# Altium schematic symbol library MI_Personal.SchLib: 995 symbols (part 6 of 12)
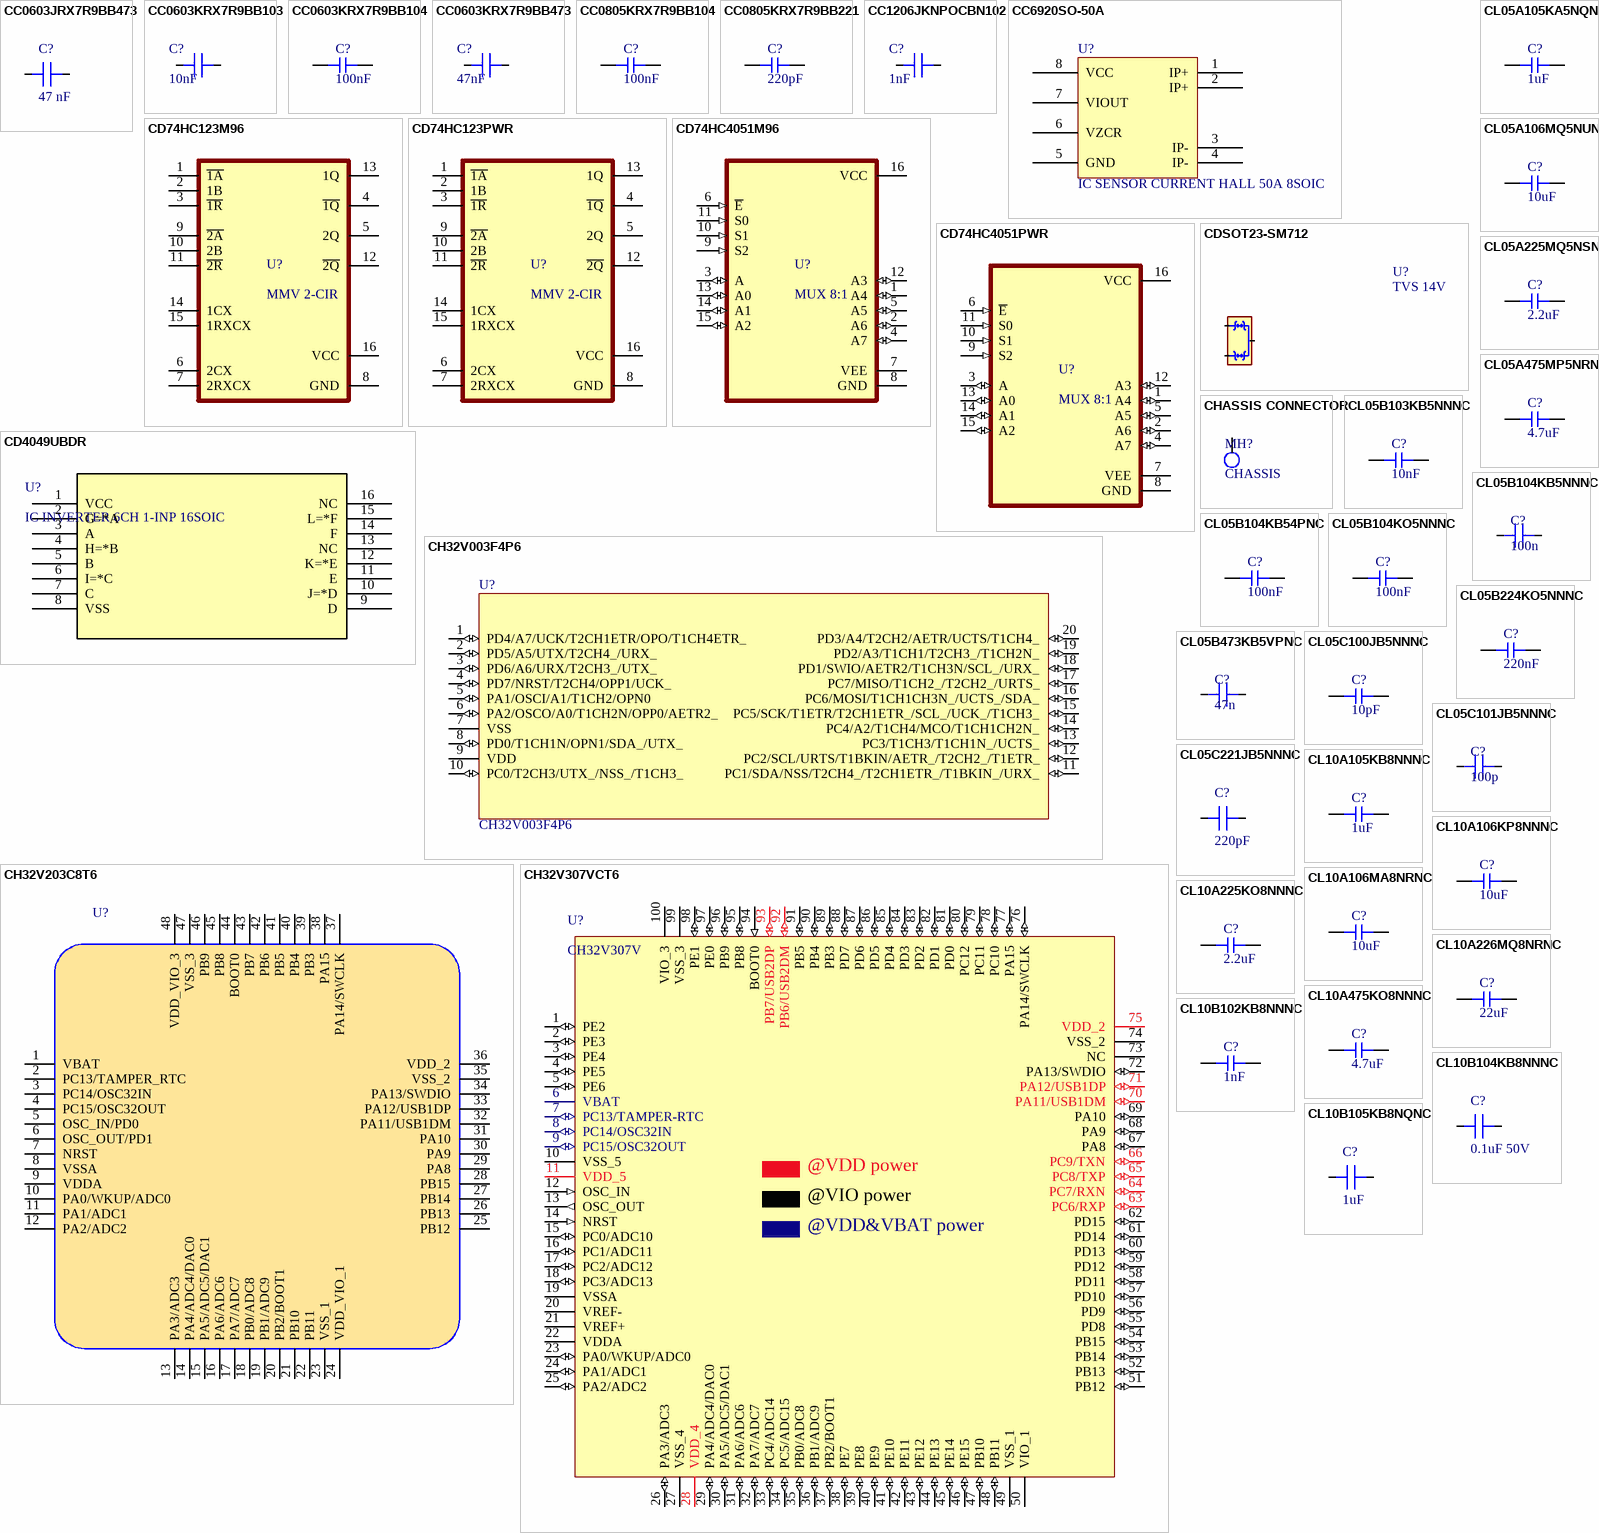
[diagram p32: symbols CC0603JRX7R9BB473 to CL10B105KB8NQNC]

## CL05A105KA5NQNC
designator C?  Capacitance: 1uF  (hidden comment: *)
Capacitor, Ceramic (MLCC), 1uF, ±10%, 25V, X5R, ±10%, SMD 0402; Manufacturer: Samsung Electro-Mechanics; Manufacturer Part Number: CL05A105KA5NQNC; Temperature Rating: -55°C ~ 85°C; Capacitance @ 1V DC Bias: 1.014uF; Capacitance @ 1.2V DC Bias: 0.983uF; Capacitance @ 1.35V DC Bias: 0.958uF; Capacitance @ 1.5V DC Bias: 0.932uF; Capacitance @ 1.8V DC Bias: 0.879uF; Capacitance @ 2.5V DC Bias: 0.755uF; Capacitance @ 3.3V DC Bias: 0.618uF; Capacitance @ 3.7V DC Bias: 0.562uF; Capacitance @ 4.2V DC Bias: 0.501uF; Capacitance @ 5V DC Bias: 0.420uF; Capacitance @ 9V DC Bias: 0.204uF; Capacitance @ 12V DC Bias: 0.147uF; Capacitance @ 15V DC Bias: 0.107uF; Capacitance @ 24V DC Bias: 0.061uF; Impedance (0V Bias) @ 100Hz: 1.95E+03Ω; Impedance (0V Bias) @ 500Hz: 402Ω; Impedance (0V Bias) @ 1kHz: 204Ω; Impedance (0V Bias) @ 5kHz: 42Ω; Impedance (0V Bias) @ 10kHz: 21.3Ω; Impedance (0V Bias) @ 50kHz: 4.4Ω; Impedance (0V Bias) @ 100kHz: 2.23Ω; Impedance (0V Bias) @ 500kHz: 0.462Ω; Impedance (0V Bias) @ 1MHz: 0.234Ω; Impedance (0V Bias) @ 5MHz: 0.0392Ω; Impedance (0V Bias) @ 10MHz: 0.0118Ω; Impedance (0V Bias) @ 50MHz: 0.0671Ω; Impedance (0V Bias) @ 100MHz: 0.118Ω; Impedance (0V Bias) @ 500MHz: 0.452Ω; Impedance (0V Bias) @ 1GHz: 0.812Ω; Impedance (0V Bias) @ 2GHz: 1.8Ω; Impedance (0V Bias) @ 5GHz: 3.57Ω; Impedance (25V Bias) @ 100Hz: 2.62E+04Ω; Impedance (25V Bias) @ 500Hz: 5.28E+03Ω; Impedance (25V Bias) @ 1kHz: 2.65E+03Ω; Impedance (25V Bias) @ 5kHz: 533Ω; Impedance (25V Bias) @ 10kHz: 267Ω; Impedance (25V Bias) @ 50kHz: 53.8Ω; Impedance (25V Bias) @ 100kHz: 27Ω; Impedance (25V Bias) @ 500kHz: 5.42Ω; Impedance (25V Bias) @ 1MHz: 2.7Ω; Impedance (25V Bias) @ 5MHz: 0.621Ω; Impedance (25V Bias) @ 10MHz: 0.298Ω; Impedance (25V Bias) @ 50MHz: 0.0523Ω; Impedance (25V Bias) @ 100MHz: 0.113Ω; Impedance (25V Bias) @ 500MHz: 0.451Ω; Impedance (25V Bias) @ 1GHz: 0.82Ω; Impedance (25V Bias) @ 2GHz: 1.85Ω; Impedance (25V Bias) @ 5GHz: 3.51Ω; Package Size: 0402; JLCPCB Basic Part: Yes; JLCPCB Part Number: C52923; Supplier 1: LCSC; Category: Capacitors - MLCC; Supplier Part Number 1: C52923; Tolerance: ±10%; Voltage Rating: 25V; Temperature Coefficient: X5R; RoHS: Yes; ComponentLink1Description: Datasheet; ComponentLink1URL: https://wmsc.lcsc.com/wmsc/upload/file/pdf/v2/lcsc/2304140030_Samsung-Electro-Mechanics-CL05A105KA5NQNC_C52923.pdf; ComponentLink2Description: JLCPCB Part URL; ComponentLink2URL: https://jlcpcb.com/partdetail/C52923; ComponentLink3Description: LCSC Part URL; ComponentLink3URL: https://lcsc.com/product-detail/Multilayer-Ceramic-Capacitors-MLCC---SMD-SMT_Samsung-Electro-Mechanics-Samsung-Electro-Mechanics-CL05A105KA5NQNC_C52923.html; ComponentLink4Description: Samsung Component Library; ComponentLink4URL: https://weblib.samsungsem.com/mlcc/mlcc-ec.do?partNumber=CL05A105KA5NQN
footprint CAP-0402 (0402 (1005M) Capacitor)
pins: 1, 2

## CL05A106MQ5NUNC
designator C?  Capacitance: 10uF  (hidden comment: *)
Capacitor, Ceramic (MLCC), 10uF, ±20%, 6.3V, X5R, ±20%, SMD 0402; Manufacturer: Samsung Electro-Mechanics; Manufacturer Part Number: CL05A106MQ5NUNC; Temperature Rating: -55°C ~ 85°C; Capacitance @ 1V DC Bias: 7.816uF; Capacitance @ 1.2V DC Bias: 7.392uF; Capacitance @ 1.35V DC Bias: 7.025uF; Capacitance @ 1.5V DC Bias: 6.639uF; Capacitance @ 1.8V DC Bias: 5.875uF; Capacitance @ 2.5V DC Bias: 4.552uF; Capacitance @ 3.3V DC Bias: 3.499uF; Capacitance @ 3.7V DC Bias: 3.122uF; Capacitance @ 4.2V DC Bias: 2.720uF; Capacitance @ 5V DC Bias: 2.236uF; Impedance (0V Bias) @ 100Hz: 243Ω; Impedance (0V Bias) @ 500Hz: 50Ω; Impedance (0V Bias) @ 1kHz: 25.3Ω; Impedance (0V Bias) @ 5kHz: 5.23Ω; Impedance (0V Bias) @ 10kHz: 2.64Ω; Impedance (0V Bias) @ 50kHz: 0.544Ω; Impedance (0V Bias) @ 100kHz: 0.275Ω; Impedance (0V Bias) @ 500kHz: 0.0554Ω; Impedance (0V Bias) @ 1MHz: 0.026Ω; Impedance (0V Bias) @ 5MHz: 0.012Ω; Impedance (0V Bias) @ 10MHz: 0.0181Ω; Impedance (0V Bias) @ 50MHz: 0.0531Ω; Impedance (0V Bias) @ 100MHz: 0.09Ω; Impedance (0V Bias) @ 500MHz: 0.323Ω; Impedance (0V Bias) @ 1GHz: 0.567Ω; Impedance (0V Bias) @ 2GHz: 1.33Ω; Impedance (0V Bias) @ 5GHz: 2.66Ω; Package Size: 0402; JLCPCB Basic Part: Yes; JLCPCB Part Number: C15525; Supplier 1: LCSC; Category: Capacitors - MLCC; Supplier Part Number 1: C15525; Tolerance: ±20%; Voltage Rating: 6.3V; Temperature Coefficient: X5R; RoHS: Yes; ComponentLink1Description: Datasheet; ComponentLink1URL: https://wmsc.lcsc.com/wmsc/upload/file/pdf/v2/lcsc/2208231630_Samsung-Electro-Mechanics-CL05A106MQ5NUNC_C15525.pdf; ComponentLink2Description: JLCPCB Part URL; ComponentLink2URL: https://jlcpcb.com/partdetail/C15525; ComponentLink3Description: LCSC Part URL; ComponentLink3URL: https://lcsc.com/product-detail/Multilayer-Ceramic-Capacitors-MLCC---SMD-SMT_Samsung-Electro-Mechanics-Samsung-Electro-Mechanics-CL05A106MQ5NUNC_C15525.html; ComponentLink4Description: Samsung Component Library; ComponentLink4URL: https://weblib.samsungsem.com/mlcc/mlcc-ec.do?partNumber=CL05A106MQ5NUN
footprint CAP-0402 (0402 (1005M) Capacitor)
pins: 1, 2

## CL05A225MQ5NSNC
designator C?  Capacitance: 2.2uF  (hidden comment: *)
Capacitor, Ceramic (MLCC), 2.2uF, ±20%, 6.3V, X5R, ±20%, SMD 0402; Manufacturer: Samsung Electro-Mechanics; Manufacturer Part Number: CL05A225MQ5NSNC; Temperature Rating: -55°C ~ 85°C; Capacitance @ 1V DC Bias: 2.019uF; Capacitance @ 1.2V DC Bias: 1.921uF; Capacitance @ 1.35V DC Bias: 1.843uF; Capacitance @ 1.5V DC Bias: 1.764uF; Capacitance @ 1.8V DC Bias: 1.611uF; Capacitance @ 2.5V DC Bias: 1.302uF; Capacitance @ 3.3V DC Bias: 1.004uF; Capacitance @ 3.7V DC Bias: 0.893uF; Capacitance @ 4.2V DC Bias: 0.780uF; Capacitance @ 5V DC Bias: 0.638uF; Impedance (0V Bias) @ 100Hz: 935Ω; Impedance (0V Bias) @ 500Hz: 192Ω; Impedance (0V Bias) @ 1kHz: 97.4Ω; Impedance (0V Bias) @ 5kHz: 20Ω; Impedance (0V Bias) @ 10kHz: 10.1Ω; Impedance (0V Bias) @ 50kHz: 2.08Ω; Impedance (0V Bias) @ 100kHz: 1.05Ω; Impedance (0V Bias) @ 500kHz: 0.214Ω; Impedance (0V Bias) @ 1MHz: 0.107Ω; Impedance (0V Bias) @ 5MHz: 0.0123Ω; Impedance (0V Bias) @ 10MHz: 0.0171Ω; Impedance (0V Bias) @ 50MHz: 0.0697Ω; Impedance (0V Bias) @ 100MHz: 0.123Ω; Impedance (0V Bias) @ 500MHz: 0.484Ω; Impedance (0V Bias) @ 1GHz: 0.858Ω; Impedance (0V Bias) @ 2GHz: 1.87Ω; Impedance (0V Bias) @ 5GHz: 3.69Ω; Package Size: 0402; JLCPCB Basic Part: Yes; JLCPCB Part Number: C12530; Supplier 1: LCSC; Category: Capacitors - MLCC; Supplier Part Number 1: C12530; Tolerance: ±20%; Voltage Rating: 6.3V; Temperature Coefficient: X5R; RoHS: Yes; ComponentLink1Description: Datasheet; ComponentLink1URL: https://wmsc.lcsc.com/wmsc/upload/file/pdf/v2/lcsc/2304140030_Samsung-Electro-Mechanics-CL05A225MQ5NSNC_C12530.pdf; ComponentLink2Description: JLCPCB Part URL; ComponentLink2URL: https://jlcpcb.com/partdetail/C12530; ComponentLink3Description: LCSC Part URL; ComponentLink3URL: https://lcsc.com/product-detail/Multilayer-Ceramic-Capacitors-MLCC---SMD-SMT_Samsung-Electro-Mechanics-Samsung-Electro-Mechanics-CL05A225MQ5NSNC_C12530.html; ComponentLink4Description: Samsung Component Library; ComponentLink4URL: https://weblib.samsungsem.com/mlcc/mlcc-ec.do?partNumber=CL05A225MQ5NSN
footprint CAP-0402 (0402 (1005M) Capacitor)
pins: 1, 2

## CL05A475MP5NRNC
designator C?  Capacitance: 4.7uF  (hidden comment: *)
Capacitor, Ceramic (MLCC), 4.7uF, ±20%, 10V, X5R, ±20%, SMD 0402; Manufacturer: Samsung Electro-Mechanics; Manufacturer Part Number: CL05A475MP5NRNC; Temperature Rating: -55°C ~ 85°C; Capacitance @ 1V DC Bias: 4.048uF; Capacitance @ 1.2V DC Bias: 3.816uF; Capacitance @ 1.35V DC Bias: 3.633uF; Capacitance @ 1.5V DC Bias: 3.450uF; Capacitance @ 1.8V DC Bias: 3.100uF; Capacitance @ 2.5V DC Bias: 2.453uF; Capacitance @ 3.3V DC Bias: 1.872uF; Capacitance @ 3.7V DC Bias: 1.663uF; Capacitance @ 4.2V DC Bias: 1.455uF; Capacitance @ 5V DC Bias: 1.191uF; Capacitance @ 9V DC Bias: 0.548uF; Impedance (0V Bias) @ 100Hz: 442Ω; Impedance (0V Bias) @ 500Hz: 90.2Ω; Impedance (0V Bias) @ 1kHz: 45.6Ω; Impedance (0V Bias) @ 5kHz: 9.34Ω; Impedance (0V Bias) @ 10kHz: 4.72Ω; Impedance (0V Bias) @ 50kHz: 0.964Ω; Impedance (0V Bias) @ 100kHz: 0.486Ω; Impedance (0V Bias) @ 500kHz: 0.0987Ω; Impedance (0V Bias) @ 1MHz: 0.0479Ω; Impedance (0V Bias) @ 5MHz: 0.00709Ω; Impedance (0V Bias) @ 10MHz: 0.0183Ω; Impedance (0V Bias) @ 50MHz: 0.06Ω; Impedance (0V Bias) @ 100MHz: 0.102Ω; Impedance (0V Bias) @ 500MHz: 0.377Ω; Impedance (0V Bias) @ 1GHz: 0.66Ω; Impedance (0V Bias) @ 2GHz: 1.52Ω; Impedance (0V Bias) @ 5GHz: 3.05Ω; Impedance (10V Bias) @ 100Hz: 3.34E+03Ω; Impedance (10V Bias) @ 500Hz: 674Ω; Impedance (10V Bias) @ 1kHz: 338Ω; Impedance (10V Bias) @ 5kHz: 68.2Ω; Impedance (10V Bias) @ 10kHz: 34.2Ω; Impedance (10V Bias) @ 50kHz: 6.88Ω; Impedance (10V Bias) @ 100kHz: 3.45Ω; Impedance (10V Bias) @ 500kHz: 0.693Ω; Impedance (10V Bias) @ 1MHz: 0.344Ω; Impedance (10V Bias) @ 5MHz: 0.0603Ω; Impedance (10V Bias) @ 10MHz: 0.0164Ω; Impedance (10V Bias) @ 50MHz: 0.064Ω; Impedance (10V Bias) @ 100MHz: 0.105Ω; Impedance (10V Bias) @ 500MHz: 0.385Ω; Impedance (10V Bias) @ 1GHz: 0.673Ω; Impedance (10V Bias) @ 5GHz: 3.06Ω; Package Size: 0402; JLCPCB Basic Part: Yes; JLCPCB Part Number: C23733; Supplier 1: LCSC; Category: Capacitors - MLCC; Supplier Part Number 1: C23733; Tolerance: ±20%; Voltage Rating: 10V; Temperature Coefficient: X5R; RoHS: Yes; ComponentLink1Description: Datasheet; ComponentLink1URL: https://wmsc.lcsc.com/wmsc/upload/file/pdf/v2/lcsc/2304140030_Samsung-Electro-Mechanics-CL05A475MP5NRNC_C23733.pdf; ComponentLink2Description: JLCPCB Part URL; ComponentLink2URL: https://jlcpcb.com/partdetail/C23733; ComponentLink3Description: LCSC Part URL; ComponentLink3URL: https://lcsc.com/product-detail/Multilayer-Ceramic-Capacitors-MLCC---SMD-SMT_Samsung-Electro-Mechanics-Samsung-Electro-Mechanics-CL05A475MP5NRNC_C23733.html; ComponentLink4Description: Samsung Component Library; ComponentLink4URL: https://weblib.samsungsem.com/mlcc/mlcc-ec.do?partNumber=CL05A475MP5NRN; Impedance (10V Bias) @ 2GHz: 1.52Ω
footprint CAP-0402 (0402 (1005M) Capacitor)
pins: 1, 2

## CL05B103KB5NNNC
designator C?  Capacitance: 10nF  (hidden comment: *)
Capacitor, Ceramic (MLCC), 10nF, ±10%, 50V, X7R, ±10%, SMD 0402; Manufacturer: Samsung Electro-Mechanics; Manufacturer Part Number: CL05B103KB5NNNC; Temperature Rating: -55°C ~ 125°C; Capacitance @ 1V DC Bias: 10.426nF; Capacitance @ 1.2V DC Bias: 10.434nF; Capacitance @ 1.35V DC Bias: 10.444nF; Capacitance @ 1.5V DC Bias: 10.455nF; Capacitance @ 1.8V DC Bias: 10.480nF; Capacitance @ 2.5V DC Bias: 10.514nF; Capacitance @ 3.3V DC Bias: 10.519nF; Capacitance @ 3.7V DC Bias: 10.504nF; Capacitance @ 4.2V DC Bias: 10.473nF; Capacitance @ 5V DC Bias: 10.402nF; Capacitance @ 9V DC Bias: 10.052nF; Capacitance @ 12V DC Bias: 9.639nF; Capacitance @ 15V DC Bias: 9.187nF; Capacitance @ 24V DC Bias: 7.606nF; Capacitance @ 36V DC Bias: 5.499nF; Capacitance @ 48V DC Bias: 3.591nF; Impedance (0V Bias) @ 100Hz: 1.57E+05Ω; Impedance (0V Bias) @ 500Hz: 3.19E+04Ω; Impedance (0V Bias) @ 1kHz: 1.61E+04Ω; Impedance (0V Bias) @ 5kHz: 3.27E+03Ω; Impedance (0V Bias) @ 10kHz: 1.65E+03Ω; Impedance (0V Bias) @ 50kHz: 335Ω; Impedance (0V Bias) @ 100kHz: 169Ω; Impedance (0V Bias) @ 500kHz: 34.3Ω; Impedance (0V Bias) @ 1MHz: 17.3Ω; Impedance (0V Bias) @ 5MHz: 3.52Ω; Impedance (0V Bias) @ 10MHz: 1.77Ω; Impedance (0V Bias) @ 50MHz: 0.285Ω; Impedance (0V Bias) @ 100MHz: 0.0835Ω; Impedance (0V Bias) @ 500MHz: 0.751Ω; Impedance (0V Bias) @ 1GHz: 1.42Ω; Impedance (0V Bias) @ 2GHz: 3.22Ω; Impedance (0V Bias) @ 5GHz: 6.48Ω; Package Size: 0402; JLCPCB Basic Part: Yes; JLCPCB Part Number: C15195; Supplier 1: LCSC; Category: Capacitors - MLCC; Supplier Part Number 1: C15195; Tolerance: ±10%; Voltage Rating: 50V; Temperature Coefficient: X7R; RoHS: Yes; ComponentLink1Description: Datasheet; ComponentLink1URL: https://wmsc.lcsc.com/wmsc/upload/file/pdf/v2/lcsc/2304140030_Samsung-Electro-Mechanics-CL05B103KB5NNNC_C15195.pdf; ComponentLink2Description: JLCPCB Part URL; ComponentLink2URL: https://jlcpcb.com/partdetail/C15195; ComponentLink3Description: LCSC Part URL; ComponentLink3URL: https://lcsc.com/product-detail/Multilayer-Ceramic-Capacitors-MLCC---SMD-SMT_Samsung-Electro-Mechanics-Samsung-Electro-Mechanics-CL05B103KB5NNNC_C15195.html; ComponentLink4Description: Samsung Component Library; ComponentLink4URL: https://weblib.samsungsem.com/mlcc/mlcc-ec.do?partNumber=CL05B103KB5NNN
footprint CAP-0402 (0402 (1005M) Capacitor)
pins: 1, 2

## CL05B104KB5NNNC
designator C?, comment 100n
CAP CER 0.1UF 50V X7R 0402; Supplier 1: DigiKey; Supplier Part Number 1: 1276-CL05B104KB5NNNCCT-ND; Supplier 2: LCSC; Supplier Part Number 2: C960916
footprint CAP 0402_1005 RF (Chip Capacitor, 2-Leads, Body 1.02x0.51mm, IPC High Density)
pins: 1, 2

## CL05B104KB54PNC
designator C?  Capacitance: 100nF  (hidden comment: *)
Capacitor, Ceramic (MLCC), 100nF, ±10%, 50V, X7R, ±10%, SMD 0402; Manufacturer: Samsung Electro-Mechanics; Manufacturer Part Number: CL05B104KB54PNC; Temperature Rating: -55°C ~ 125°C; Capacitance @ 1V DC Bias: 105.687nF; Capacitance @ 1.2V DC Bias: 105.639nF; Capacitance @ 1.35V DC Bias: 105.594nF; Capacitance @ 1.5V DC Bias: 105.528nF; Capacitance @ 1.8V DC Bias: 105.317nF; Capacitance @ 2.5V DC Bias: 104.216nF; Capacitance @ 3.3V DC Bias: 102.385nF; Capacitance @ 3.7V DC Bias: 101.236nF; Capacitance @ 4.2V DC Bias: 99.650nF; Capacitance @ 5V DC Bias: 96.918nF; Capacitance @ 9V DC Bias: 81.073nF; Capacitance @ 12V DC Bias: 69.786nF; Capacitance @ 15V DC Bias: 59.475nF; Capacitance @ 24V DC Bias: 38.112nF; Capacitance @ 36V DC Bias: 23.027nF; Capacitance @ 48V DC Bias: 16.035nF; Impedance (0V Bias) @ 100Hz: 1.66E+04Ω; Impedance (0V Bias) @ 500Hz: 3.38E+03Ω; Impedance (0V Bias) @ 1kHz: 1.7E+03Ω; Impedance (0V Bias) @ 5kHz: 346Ω; Impedance (0V Bias) @ 10kHz: 175Ω; Impedance (0V Bias) @ 50kHz: 35.5Ω; Impedance (0V Bias) @ 100kHz: 17.9Ω; Impedance (0V Bias) @ 500kHz: 3.64Ω; Impedance (0V Bias) @ 1MHz: 1.84Ω; Impedance (0V Bias) @ 5MHz: 0.366Ω; Impedance (0V Bias) @ 10MHz: 0.172Ω; Impedance (0V Bias) @ 50MHz: 0.0626Ω; Impedance (0V Bias) @ 100MHz: 0.128Ω; Impedance (0V Bias) @ 500MHz: 0.487Ω; Impedance (0V Bias) @ 1GHz: 0.87Ω; Impedance (0V Bias) @ 2GHz: 2Ω; Impedance (0V Bias) @ 5GHz: 3.96Ω; Package Size: 0402; JLCPCB Basic Part: Yes; JLCPCB Part Number: C307331; Supplier 1: LCSC; Category: Capacitors - MLCC; Supplier Part Number 1: C307331; Tolerance: ±10%; Voltage Rating: 50V; Temperature Coefficient: X7R; RoHS: Yes; ComponentLink1Description: Datasheet; ComponentLink1URL: https://wmsc.lcsc.com/wmsc/upload/file/pdf/v2/lcsc/2304140030_Samsung-Electro-Mechanics-CL05B104KB54PNC_C307331.pdf; ComponentLink2Description: JLCPCB Part URL; ComponentLink2URL: https://jlcpcb.com/partdetail/C307331; ComponentLink3Description: LCSC Part URL; ComponentLink3URL: https://lcsc.com/product-detail/Multilayer-Ceramic-Capacitors-MLCC---SMD-SMT_Samsung-Electro-Mechanics-Samsung-Electro-Mechanics-CL05B104KB54PNC_C307331.html; ComponentLink4Description: Samsung Component Library; ComponentLink4URL: https://weblib.samsungsem.com/mlcc/mlcc-ec.do?partNumber=CL05B104KB54PN
footprint CAP-0402 (0402 (1005M) Capacitor)
pins: 1, 2

## CL05B104KO5NNNC
designator C?  Capacitance: 100nF  (hidden comment: *)
Capacitor, Ceramic (MLCC), 100nF, ±10%, 16V, X7R, ±10%, SMD 0402; Manufacturer: Samsung Electro-Mechanics; Manufacturer Part Number: CL05B104KO5NNNC; Temperature Rating: -55°C ~ 125°C; Capacitance @ 1V DC Bias: 104.721nF; Capacitance @ 1.2V DC Bias: 104.598nF; Capacitance @ 1.35V DC Bias: 104.495nF; Capacitance @ 1.5V DC Bias: 104.372nF; Capacitance @ 1.8V DC Bias: 104.042nF; Capacitance @ 2.5V DC Bias: 102.634nF; Capacitance @ 3.3V DC Bias: 100.452nF; Capacitance @ 3.7V DC Bias: 99.160nF; Capacitance @ 4.2V DC Bias: 97.441nF; Capacitance @ 5V DC Bias: 94.577nF; Capacitance @ 9V DC Bias: 78.638nF; Capacitance @ 12V DC Bias: 66.291nF; Capacitance @ 15V DC Bias: 54.779nF; Impedance (0V Bias) @ 100Hz: 1.71E+04Ω; Impedance (0V Bias) @ 500Hz: 3.48E+03Ω; Impedance (0V Bias) @ 1kHz: 1.75E+03Ω; Impedance (0V Bias) @ 5kHz: 356Ω; Impedance (0V Bias) @ 10kHz: 179Ω; Impedance (0V Bias) @ 50kHz: 36.4Ω; Impedance (0V Bias) @ 100kHz: 18.3Ω; Impedance (0V Bias) @ 500kHz: 3.72Ω; Impedance (0V Bias) @ 1MHz: 1.87Ω; Impedance (0V Bias) @ 5MHz: 0.373Ω; Impedance (0V Bias) @ 10MHz: 0.175Ω; Impedance (0V Bias) @ 50MHz: 0.064Ω; Impedance (0V Bias) @ 100MHz: 0.122Ω; Impedance (0V Bias) @ 500MHz: 0.525Ω; Impedance (0V Bias) @ 1GHz: 0.97Ω; Impedance (0V Bias) @ 2GHz: 2.26Ω; Impedance (0V Bias) @ 5GHz: 4.75Ω; Impedance (16V Bias) @ 100Hz: 2.55E+04Ω; Impedance (16V Bias) @ 500Hz: 5.18E+03Ω; Impedance (16V Bias) @ 1kHz: 2.61E+03Ω; Impedance (16V Bias) @ 5kHz: 529Ω; Impedance (16V Bias) @ 10kHz: 266Ω; Impedance (16V Bias) @ 50kHz: 54Ω; Impedance (16V Bias) @ 100kHz: 27.2Ω; Impedance (16V Bias) @ 500kHz: 5.5Ω; Impedance (16V Bias) @ 1MHz: 2.76Ω; Impedance (16V Bias) @ 5MHz: 0.587Ω; Impedance (16V Bias) @ 10MHz: 0.277Ω; Impedance (16V Bias) @ 50MHz: 0.0412Ω; Impedance (16V Bias) @ 100MHz: 0.133Ω; Impedance (16V Bias) @ 500MHz: 0.524Ω; Impedance (16V Bias) @ 1GHz: 0.969Ω; Impedance (16V Bias) @ 2GHz: 2.25Ω; Impedance (16V Bias) @ 5GHz: 4.7Ω; Package Size: 0402; JLCPCB Basic Part: Yes; JLCPCB Part Number: C1525; Supplier 1: LCSC; Category: Capacitors - MLCC; Supplier Part Number 1: C1525; Tolerance: ±10%; Voltage Rating: 16V; Temperature Coefficient: X7R; RoHS: Yes; ComponentLink1Description: Datasheet; ComponentLink1URL: https://wmsc.lcsc.com/wmsc/upload/file/pdf/v2/lcsc/2304140030_Samsung-Electro-Mechanics-CL05B104KO5NNNC_C1525.pdf; ComponentLink2Description: JLCPCB Part URL; ComponentLink2URL: https://jlcpcb.com/partdetail/C1525; ComponentLink3Description: LCSC Part URL; ComponentLink3URL: https://lcsc.com/product-detail/Multilayer-Ceramic-Capacitors-MLCC---SMD-SMT_Samsung-Electro-Mechanics-Samsung-Electro-Mechanics-CL05B104KO5NNNC_C1525.html; ComponentLink4Description: Samsung Component Library; ComponentLink4URL: https://weblib.samsungsem.com/mlcc/mlcc-ec.do?partNumber=CL05B104KO5NNN
footprint CAP-0402 (0402 (1005M) Capacitor)
pins: 1, 2

## CL05B224KO5NNNC
designator C?  Capacitance: 220nF  (hidden comment: *)
Capacitor, Ceramic (MLCC), 220nF, ±10%, 16V, X7R, ±10%, SMD 0402; Manufacturer: Samsung Electro-Mechanics; Manufacturer Part Number: CL05B224KO5NNNC; Temperature Rating: -55°C ~ 125°C; Capacitance @ 1V DC Bias: 229.732nF; Capacitance @ 1.2V DC Bias: 229.338nF; Capacitance @ 1.35V DC Bias: 228.985nF; Capacitance @ 1.5V DC Bias: 228.566nF; Capacitance @ 1.8V DC Bias: 227.476nF; Capacitance @ 2.5V DC Bias: 222.749nF; Capacitance @ 3.3V DC Bias: 215.025nF; Capacitance @ 3.7V DC Bias: 210.612nF; Capacitance @ 4.2V DC Bias: 204.867nF; Capacitance @ 5V DC Bias: 195.190nF; Capacitance @ 9V DC Bias: 144.998nF; Capacitance @ 12V DC Bias: 114.994nF; Capacitance @ 15V DC Bias: 89.389nF; Impedance (0V Bias) @ 100Hz: 8.15E+03Ω; Impedance (0V Bias) @ 500Hz: 1.66E+03Ω; Impedance (0V Bias) @ 1kHz: 835Ω; Impedance (0V Bias) @ 5kHz: 170Ω; Impedance (0V Bias) @ 10kHz: 85.4Ω; Impedance (0V Bias) @ 50kHz: 17.4Ω; Impedance (0V Bias) @ 100kHz: 8.74Ω; Impedance (0V Bias) @ 500kHz: 1.77Ω; Impedance (0V Bias) @ 1MHz: 0.89Ω; Impedance (0V Bias) @ 5MHz: 0.172Ω; Impedance (0V Bias) @ 10MHz: 0.074Ω; Impedance (0V Bias) @ 50MHz: 0.0718Ω; Impedance (0V Bias) @ 100MHz: 0.118Ω; Impedance (0V Bias) @ 500MHz: 0.465Ω; Impedance (0V Bias) @ 1GHz: 0.864Ω; Impedance (0V Bias) @ 2GHz: 2.05Ω; Impedance (0V Bias) @ 5GHz: 4.07Ω; Impedance (16V Bias) @ 100Hz: 2.13E+04Ω; Impedance (16V Bias) @ 500Hz: 4.31E+03Ω; Impedance (16V Bias) @ 1kHz: 2.17E+03Ω; Impedance (16V Bias) @ 5kHz: 438Ω; Impedance (16V Bias) @ 10kHz: 220Ω; Impedance (16V Bias) @ 50kHz: 44.5Ω; Impedance (16V Bias) @ 100kHz: 22.4Ω; Impedance (16V Bias) @ 500kHz: 4.51Ω; Impedance (16V Bias) @ 1MHz: 2.25Ω; Impedance (16V Bias) @ 5MHz: 0.489Ω; Impedance (16V Bias) @ 10MHz: 0.231Ω; Impedance (16V Bias) @ 50MHz: 0.0518Ω; Impedance (16V Bias) @ 100MHz: 0.12Ω; Impedance (16V Bias) @ 500MHz: 0.46Ω; Impedance (16V Bias) @ 1GHz: 0.861Ω; Impedance (16V Bias) @ 2GHz: 2.07Ω; Impedance (16V Bias) @ 5GHz: 4.08Ω; Package Size: 0402; JLCPCB Basic Part: Yes; JLCPCB Part Number: C16772; Supplier 1: LCSC; Category: Capacitors - MLCC; Supplier Part Number 1: C16772; Tolerance: ±10%; Voltage Rating: 16V; Temperature Coefficient: X7R; RoHS: Yes; ComponentLink1Description: Datasheet; ComponentLink1URL: https://wmsc.lcsc.com/wmsc/upload/file/pdf/v2/lcsc/2304140030_Samsung-Electro-Mechanics-CL05B224KO5NNNC_C16772.pdf; ComponentLink2Description: JLCPCB Part URL; ComponentLink2URL: https://jlcpcb.com/partdetail/C16772; ComponentLink3Description: LCSC Part URL; ComponentLink3URL: https://lcsc.com/product-detail/Multilayer-Ceramic-Capacitors-MLCC---SMD-SMT_Samsung-Electro-Mechanics-Samsung-Electro-Mechanics-CL05B224KO5NNNC-_C16772.html; ComponentLink4Description: Samsung Component Library; ComponentLink4URL: https://weblib.samsungsem.com/mlcc/mlcc-ec.do?partNumber=CL05B224KO5NNN
footprint CAP-0402 (0402 (1005M) Capacitor)
pins: 1, 2

## CL05B473KB5VPNC
designator C?, comment 47n
CAP CER 0.047UF 50V X7R 0402; Supplier 1: DigiKey; Supplier Part Number 1: 1276-CL05B473KB5VPNCCT-ND; Supplier 2: LCSC; Supplier Part Number 2: C307339
footprint CAP 0402_1005 RF (Chip Capacitor, 2-Leads, Body 1.02x0.51mm, IPC High Density)
pins: 1, 2

## CL05C100JB5NNNC
designator C?  Capacitance: 10pF  (hidden comment: *)
Capacitor, Ceramic (MLCC), 10pF, ±5%, 50V, C0G, ±5%, SMD 0402; Manufacturer: Samsung Electro-Mechanics; Manufacturer Part Number: CL05C100JB5NNNC; Temperature Rating: -55°C ~ 125°C; Impedance (0V Bias) @ 100MHz: 159Ω; Impedance (0V Bias) @ 500MHz: 31Ω; Impedance (0V Bias) @ 1GHz: 14.2Ω; Impedance (0V Bias) @ 2GHz: 2.29Ω; Impedance (0V Bias) @ 5GHz: 4.97Ω; Package Size: 0402; JLCPCB Basic Part: Yes; JLCPCB Part Number: C32949; Supplier 1: LCSC; Category: Capacitors - MLCC; Supplier Part Number 1: C32949; Tolerance: ±5%; Voltage Rating: 50V; Temperature Coefficient: C0G; RoHS: Yes; ComponentLink1Description: Datasheet; ComponentLink1URL: https://wmsc.lcsc.com/wmsc/upload/file/pdf/v2/lcsc/2304140030_Samsung-Electro-Mechanics-CL05C100JB5NNNC_C32949.pdf; ComponentLink2Description: JLCPCB Part URL; ComponentLink2URL: https://jlcpcb.com/partdetail/C32949; ComponentLink3Description: LCSC Part URL; ComponentLink3URL: https://lcsc.com/product-detail/Multilayer-Ceramic-Capacitors-MLCC---SMD-SMT_Samsung-Electro-Mechanics-Samsung-Electro-Mechanics-CL05C100JB5NNNC_C32949.html; ComponentLink4Description: Samsung Component Library; ComponentLink4URL: https://weblib.samsungsem.com/mlcc/mlcc-ec.do?partNumber=CL05C100JB5NNN
footprint CAP-0402 (0402 (1005M) Capacitor)
pins: 1, 2

## CL05C101JB5NNNC
designator C?, comment 100p
CAP CER 100PF 50V C0G/NP0 0402; Supplier 1: DigiKey; Supplier Part Number 1: 1276-1025-1-ND; Supplier 2: LCSC; Supplier Part Number 2: C26409
footprint CAP 0402_1005 RF (Chip Capacitor, 2-Leads, Body 1.02x0.51mm, IPC High Density)
pins: 1, 2

## CL05C221JB5NNNC
designator C?, comment 220pF
CAP CER 220pF 50V C0G/NP0 0603; Supplier 1: DigiKey; Supplier Part Number 1: 1276-1059-1-ND; Supplier 2: LCSC; Supplier Part Number 2: C307445
footprint CAP 0402_1005 (Chip Capacitor, 2-Leads, Body 1.02x0.51mm, IPC Medium Density)
pins: 1, 2

## CL10A105KB8NNNC
designator C?  Capacitance: 1uF  (hidden comment: *)
Capacitor, Ceramic (MLCC), 1uF, ±10%, 50V, X5R, ±10%, SMD 0603; Manufacturer: Samsung Electro-Mechanics; Manufacturer Part Number: CL10A105KB8NNNC; Temperature Rating: -55°C ~ 85°C; Capacitance @ 1V DC Bias: 1.054uF; Capacitance @ 1.2V DC Bias: 1.044uF; Capacitance @ 1.35V DC Bias: 1.035uF; Capacitance @ 1.5V DC Bias: 1.027uF; Capacitance @ 1.8V DC Bias: 1.007uF; Capacitance @ 2.5V DC Bias: 0.947uF; Capacitance @ 3.3V DC Bias: 0.865uF; Capacitance @ 3.7V DC Bias: 0.824uF; Capacitance @ 4.2V DC Bias: 0.773uF; Capacitance @ 5V DC Bias: 0.695uF; Capacitance @ 9V DC Bias: 0.410uF; Capacitance @ 12V DC Bias: 0.308uF; Capacitance @ 15V DC Bias: 0.231uF; Capacitance @ 24V DC Bias: 0.130uF; Capacitance @ 36V DC Bias: 0.080uF; Capacitance @ 48V DC Bias: 0.063uF; Impedance (0V Bias) @ 100Hz: 1.84E+03Ω; Impedance (0V Bias) @ 500Hz: 378Ω; Impedance (0V Bias) @ 1kHz: 191Ω; Impedance (0V Bias) @ 5kHz: 39.1Ω; Impedance (0V Bias) @ 10kHz: 19.8Ω; Impedance (0V Bias) @ 50kHz: 4.04Ω; Impedance (0V Bias) @ 100kHz: 2.04Ω; Impedance (0V Bias) @ 500kHz: 0.416Ω; Impedance (0V Bias) @ 1MHz: 0.208Ω; Impedance (0V Bias) @ 5MHz: 0.0293Ω; Impedance (0V Bias) @ 10MHz: 0.0159Ω; Impedance (0V Bias) @ 50MHz: 0.0822Ω; Impedance (0V Bias) @ 100MHz: 0.14Ω; Impedance (0V Bias) @ 500MHz: 0.54Ω; Impedance (0V Bias) @ 1GHz: 0.988Ω; Impedance (0V Bias) @ 2GHz: 2.38Ω; Impedance (0V Bias) @ 5GHz: 4.94Ω; Package Size: 0603; JLCPCB Basic Part: Yes; JLCPCB Part Number: C15849; Supplier 1: LCSC; Category: Capacitors - MLCC; Supplier Part Number 1: C15849; Tolerance: ±10%; Voltage Rating: 50V; Temperature Coefficient: X5R; RoHS: Yes; ComponentLink1Description: Datasheet; ComponentLink1URL: https://wmsc.lcsc.com/wmsc/upload/file/pdf/v2/lcsc/2304140030_Samsung-Electro-Mechanics-CL10A105KB8NNNC_C15849.pdf; ComponentLink2Description: JLCPCB Part URL; ComponentLink2URL: https://jlcpcb.com/partdetail/C15849; ComponentLink3Description: LCSC Part URL; ComponentLink3URL: https://lcsc.com/product-detail/Multilayer-Ceramic-Capacitors-MLCC---SMD-SMT_Samsung-Electro-Mechanics-Samsung-Electro-Mechanics-CL10A105KB8NNNC_C15849.html; ComponentLink4Description: Samsung Component Library; ComponentLink4URL: https://weblib.samsungsem.com/mlcc/mlcc-ec.do?partNumber=CL10A105KB8NNN
footprint CAP-0603 (0603 (1608M) Capacitor)
pins: 1, 2

## CL10A106KP8NNNC
designator C?  Capacitance: 10uF  (hidden comment: *)
Capacitor, Ceramic (MLCC), 10uF, ±10%, 10V, X5R, ±10%, SMD 0603; Manufacturer: Samsung Electro-Mechanics; Manufacturer Part Number: CL10A106KP8NNNC; Temperature Rating: -55°C ~ 85°C; Capacitance @ 1V DC Bias: 8.451uF; Capacitance @ 1.2V DC Bias: 8.084uF; Capacitance @ 1.35V DC Bias: 7.793uF; Capacitance @ 1.5V DC Bias: 7.497uF; Capacitance @ 1.8V DC Bias: 6.915uF; Capacitance @ 2.5V DC Bias: 5.691uF; Capacitance @ 3.3V DC Bias: 4.464uF; Capacitance @ 3.7V DC Bias: 3.996uF; Capacitance @ 4.2V DC Bias: 3.516uF; Capacitance @ 5V DC Bias: 2.897uF; Capacitance @ 9V DC Bias: 1.372uF; Impedance (0V Bias) @ 100Hz: 217Ω; Impedance (0V Bias) @ 500Hz: 44.6Ω; Impedance (0V Bias) @ 1kHz: 22.6Ω; Impedance (0V Bias) @ 5kHz: 4.64Ω; Impedance (0V Bias) @ 10kHz: 2.35Ω; Impedance (0V Bias) @ 50kHz: 0.481Ω; Impedance (0V Bias) @ 100kHz: 0.243Ω; Impedance (0V Bias) @ 500kHz: 0.0484Ω; Impedance (0V Bias) @ 1MHz: 0.0217Ω; Impedance (0V Bias) @ 5MHz: 0.0144Ω; Impedance (0V Bias) @ 10MHz: 0.0227Ω; Impedance (0V Bias) @ 50MHz: 0.0729Ω; Impedance (0V Bias) @ 100MHz: 0.123Ω; Impedance (0V Bias) @ 500MHz: 0.439Ω; Impedance (0V Bias) @ 1GHz: 0.788Ω; Impedance (0V Bias) @ 2GHz: 1.8Ω; Impedance (0V Bias) @ 5GHz: 3.33Ω; Impedance (10V Bias) @ 100Hz: 1.6E+03Ω; Impedance (10V Bias) @ 500Hz: 323Ω; Impedance (10V Bias) @ 1kHz: 162Ω; Impedance (10V Bias) @ 5kHz: 32.7Ω; Impedance (10V Bias) @ 10kHz: 16.4Ω; Impedance (10V Bias) @ 50kHz: 3.3Ω; Impedance (10V Bias) @ 100kHz: 1.66Ω; Impedance (10V Bias) @ 500kHz: 0.331Ω; Impedance (10V Bias) @ 1MHz: 0.161Ω; Impedance (10V Bias) @ 5MHz: 0.0215Ω; Impedance (10V Bias) @ 10MHz: 0.0228Ω; Impedance (10V Bias) @ 50MHz: 0.0759Ω; Impedance (10V Bias) @ 500MHz: 0.443Ω; Impedance (10V Bias) @ 1GHz: 0.786Ω; Impedance (10V Bias) @ 2GHz: 1.77Ω; Impedance (10V Bias) @ 5GHz: 3.28Ω; Package Size: 0603; JLCPCB Basic Part: Yes; JLCPCB Part Number: C19702; Supplier 1: LCSC; Category: Capacitors - MLCC; Supplier Part Number 1: C19702; Tolerance: ±10%; Voltage Rating: 10V; Temperature Coefficient: X5R; RoHS: Yes; ComponentLink1Description: Datasheet; ComponentLink1URL: https://wmsc.lcsc.com/wmsc/upload/file/pdf/v2/lcsc/2304140030_Samsung-Electro-Mechanics-CL10A106KP8NNNC_C19702.pdf; ComponentLink2Description: JLCPCB Part URL; ComponentLink2URL: https://jlcpcb.com/partdetail/C19702; ComponentLink3Description: LCSC Part URL; ComponentLink3URL: https://lcsc.com/product-detail/Multilayer-Ceramic-Capacitors-MLCC---SMD-SMT_Samsung-Electro-Mechanics-Samsung-Electro-Mechanics-CL10A106KP8NNNC_C19702.html; ComponentLink4Description: Samsung Component Library; ComponentLink4URL: https://weblib.samsungsem.com/mlcc/mlcc-ec.do?partNumber=CL10A106KP8NNN; Impedance (10V Bias) @ 100MHz: 0.123Ω
footprint CAP-0603 (0603 (1608M) Capacitor)
pins: 1, 2

## CL10A106MA8NRNC
designator C?  Capacitance: 10uF  (hidden comment: *)
Capacitor, Ceramic (MLCC), 10uF, ±20%, 25V, X5R, ±20%, SMD 0603; Manufacturer: Samsung Electro-Mechanics; Manufacturer Part Number: CL10A106MA8NRNC; Temperature Rating: -55°C ~ 85°C; Capacitance @ 1V DC Bias: 8.964uF; Capacitance @ 1.2V DC Bias: 8.768uF; Capacitance @ 1.35V DC Bias: 8.609uF; Capacitance @ 1.5V DC Bias: 8.444uF; Capacitance @ 1.8V DC Bias: 8.099uF; Capacitance @ 2.5V DC Bias: 7.202uF; Capacitance @ 3.3V DC Bias: 6.143uF; Capacitance @ 3.7V DC Bias: 5.664uF; Capacitance @ 4.2V DC Bias: 5.128uF; Capacitance @ 5V DC Bias: 4.387uF; Capacitance @ 9V DC Bias: 2.251uF; Capacitance @ 12V DC Bias: 1.644uF; Capacitance @ 15V DC Bias: 1.206uF; Capacitance @ 24V DC Bias: 0.690uF; Impedance (0V Bias) @ 100Hz: 205Ω; Impedance (0V Bias) @ 500Hz: 41.9Ω; Impedance (0V Bias) @ 1kHz: 21.1Ω; Impedance (0V Bias) @ 5kHz: 4.31Ω; Impedance (0V Bias) @ 10kHz: 2.17Ω; Impedance (0V Bias) @ 50kHz: 0.441Ω; Impedance (0V Bias) @ 100kHz: 0.222Ω; Impedance (0V Bias) @ 500kHz: 0.0432Ω; Impedance (0V Bias) @ 1MHz: 0.0185Ω; Impedance (0V Bias) @ 5MHz: 0.0154Ω; Impedance (0V Bias) @ 10MHz: 0.0225Ω; Impedance (0V Bias) @ 50MHz: 0.0746Ω; Impedance (0V Bias) @ 100MHz: 0.129Ω; Impedance (0V Bias) @ 500MHz: 0.513Ω; Impedance (0V Bias) @ 1GHz: 0.937Ω; Impedance (0V Bias) @ 2GHz: 2.28Ω; Impedance (0V Bias) @ 5GHz: 4.61Ω; Impedance (25V Bias) @ 100Hz: 2.27E+03Ω; Impedance (25V Bias) @ 500Hz: 456Ω; Impedance (25V Bias) @ 1kHz: 229Ω; Impedance (25V Bias) @ 5kHz: 46Ω; Impedance (25V Bias) @ 10kHz: 23.1Ω; Impedance (25V Bias) @ 50kHz: 4.64Ω; Impedance (25V Bias) @ 100kHz: 2.32Ω; Impedance (25V Bias) @ 500kHz: 0.461Ω; Impedance (25V Bias) @ 1MHz: 0.223Ω; Impedance (25V Bias) @ 5MHz: 0.039Ω; Impedance (25V Bias) @ 10MHz: 0.0151Ω; Impedance (25V Bias) @ 50MHz: 0.0797Ω; Impedance (25V Bias) @ 100MHz: 0.132Ω; Impedance (25V Bias) @ 500MHz: 0.527Ω; Impedance (25V Bias) @ 1GHz: 0.956Ω; Impedance (25V Bias) @ 2GHz: 2.27Ω; Impedance (25V Bias) @ 5GHz: 4.57Ω; Package Size: 0603; JLCPCB Basic Part: Yes; JLCPCB Part Number: C96446; Supplier 1: LCSC; Category: Capacitors - MLCC; Supplier Part Number 1: C96446; Tolerance: ±20%; Voltage Rating: 25V; Temperature Coefficient: X5R; RoHS: Yes; ComponentLink1Description: Datasheet; ComponentLink1URL: https://wmsc.lcsc.com/wmsc/upload/file/pdf/v2/lcsc/2304140030_Samsung-Electro-Mechanics-CL10A106MA8NRNC_C96446.pdf; ComponentLink2Description: JLCPCB Part URL; ComponentLink2URL: https://jlcpcb.com/partdetail/C96446; ComponentLink3Description: LCSC Part URL; ComponentLink3URL: https://lcsc.com/product-detail/Multilayer-Ceramic-Capacitors-MLCC---SMD-SMT_Samsung-Electro-Mechanics-Samsung-Electro-Mechanics-CL10A106MA8NRNC_C96446.html; ComponentLink4Description: Samsung Component Library; ComponentLink4URL: https://weblib.samsungsem.com/mlcc/mlcc-ec.do?partNumber=CL10A106MA8NRN
footprint CAP-0603 (0603 (1608M) Capacitor)
pins: 1, 2

## CL10A225KO8NNNC
designator C?  Capacitance: 2.2uF  (hidden comment: *)
Capacitor, Ceramic (MLCC), 2.2uF, ±10%, 16V, X5R, ±10%, SMD 0603; Manufacturer: Samsung Electro-Mechanics; Manufacturer Part Number: CL10A225KO8NNNC; Temperature Rating: -55°C ~ 85°C; Capacitance @ 1V DC Bias: 2.290uF; Capacitance @ 1.2V DC Bias: 2.232uF; Capacitance @ 1.35V DC Bias: 2.184uF; Capacitance @ 1.5V DC Bias: 2.135uF; Capacitance @ 1.8V DC Bias: 2.033uF; Capacitance @ 2.5V DC Bias: 1.780uF; Capacitance @ 3.3V DC Bias: 1.490uF; Capacitance @ 3.7V DC Bias: 1.365uF; Capacitance @ 4.2V DC Bias: 1.230uF; Capacitance @ 5V DC Bias: 1.046uF; Capacitance @ 9V DC Bias: 0.530uF; Capacitance @ 12V DC Bias: 0.397uF; Capacitance @ 15V DC Bias: 0.295uF; Impedance (0V Bias) @ 100Hz: 748Ω; Impedance (0V Bias) @ 500Hz: 156Ω; Impedance (0V Bias) @ 1kHz: 79.1Ω; Impedance (0V Bias) @ 5kHz: 16.4Ω; Impedance (0V Bias) @ 10kHz: 8.3Ω; Impedance (0V Bias) @ 50kHz: 1.7Ω; Impedance (0V Bias) @ 100kHz: 0.86Ω; Impedance (0V Bias) @ 500kHz: 0.176Ω; Impedance (0V Bias) @ 1MHz: 0.0866Ω; Impedance (0V Bias) @ 5MHz: 0.00777Ω; Impedance (0V Bias) @ 10MHz: 0.0257Ω; Impedance (0V Bias) @ 50MHz: 0.0946Ω; Impedance (0V Bias) @ 100MHz: 0.166Ω; Impedance (0V Bias) @ 500MHz: 0.651Ω; Impedance (0V Bias) @ 1GHz: 1.17Ω; Impedance (0V Bias) @ 2GHz: 2.75Ω; Impedance (0V Bias) @ 5GHz: 5.64Ω; Impedance (16V Bias) @ 100Hz: 5.28E+03Ω; Impedance (16V Bias) @ 500Hz: 1.07E+03Ω; Impedance (16V Bias) @ 1kHz: 539Ω; Impedance (16V Bias) @ 5kHz: 109Ω; Impedance (16V Bias) @ 10kHz: 54.9Ω; Impedance (16V Bias) @ 50kHz: 11.1Ω; Impedance (16V Bias) @ 100kHz: 5.57Ω; Impedance (16V Bias) @ 500kHz: 1.12Ω; Impedance (16V Bias) @ 1MHz: 0.552Ω; Impedance (16V Bias) @ 5MHz: 0.113Ω; Impedance (16V Bias) @ 10MHz: 0.036Ω; Impedance (16V Bias) @ 50MHz: 0.0879Ω; Impedance (16V Bias) @ 100MHz: 0.169Ω; Impedance (16V Bias) @ 500MHz: 0.683Ω; Impedance (16V Bias) @ 1GHz: 1.23Ω; Impedance (16V Bias) @ 2GHz: 2.87Ω; Impedance (16V Bias) @ 5GHz: 5.6Ω; Package Size: 0603; JLCPCB Basic Part: Yes; JLCPCB Part Number: C23630; Supplier 1: LCSC; Category: Capacitors - MLCC; Supplier Part Number 1: C23630; Tolerance: ±10%; Voltage Rating: 16V; Temperature Coefficient: X5R; RoHS: Yes; ComponentLink1Description: Datasheet; ComponentLink1URL: https://wmsc.lcsc.com/wmsc/upload/file/pdf/v2/lcsc/2304140030_Samsung-Electro-Mechanics-CL10A225KO8NNNC_C23630.pdf; ComponentLink2Description: JLCPCB Part URL; ComponentLink2URL: https://jlcpcb.com/partdetail/C23630; ComponentLink3Description: LCSC Part URL; ComponentLink3URL: https://lcsc.com/product-detail/Multilayer-Ceramic-Capacitors-MLCC---SMD-SMT_Samsung-Electro-Mechanics-Samsung-Electro-Mechanics-CL10A225KO8NNNC_C23630.html; ComponentLink4Description: Samsung Component Library; ComponentLink4URL: https://weblib.samsungsem.com/mlcc/mlcc-ec.do?partNumber=CL10A225KO8NNN
footprint CAP-0603 (0603 (1608M) Capacitor)
pins: 1, 2

## CL10A226MQ8NRNC
designator C?  Capacitance: 22uF  (hidden comment: *)
Capacitor, Ceramic (MLCC), 22uF, ±20%, 6.3V, X5R, ±20%, SMD 0603; Manufacturer: Samsung Electro-Mechanics; Manufacturer Part Number: CL10A226MQ8NRNC; Temperature Rating: -55°C ~ 85°C; Capacitance @ 1V DC Bias: 17.820uF; Capacitance @ 1.2V DC Bias: 16.916uF; Capacitance @ 1.35V DC Bias: 16.197uF; Capacitance @ 1.5V DC Bias: 15.472uF; Capacitance @ 1.8V DC Bias: 14.074uF; Capacitance @ 2.5V DC Bias: 11.369uF; Capacitance @ 3.3V DC Bias: 8.834uF; Capacitance @ 3.7V DC Bias: 7.897uF; Capacitance @ 4.2V DC Bias: 6.952uF; Capacitance @ 5V DC Bias: 5.741uF; Impedance (0V Bias) @ 100Hz: 100Ω; Impedance (0V Bias) @ 500Hz: 20.7Ω; Impedance (0V Bias) @ 1kHz: 10.5Ω; Impedance (0V Bias) @ 5kHz: 2.16Ω; Impedance (0V Bias) @ 10kHz: 1.09Ω; Impedance (0V Bias) @ 50kHz: 0.224Ω; Impedance (0V Bias) @ 100kHz: 0.113Ω; Impedance (0V Bias) @ 500kHz: 0.0212Ω; Impedance (0V Bias) @ 1MHz: 0.00751Ω; Impedance (0V Bias) @ 5MHz: 0.0137Ω; Impedance (0V Bias) @ 10MHz: 0.0217Ω; Impedance (0V Bias) @ 50MHz: 0.0716Ω; Impedance (0V Bias) @ 100MHz: 0.12Ω; Impedance (0V Bias) @ 500MHz: 0.428Ω; Impedance (0V Bias) @ 1GHz: 0.751Ω; Impedance (0V Bias) @ 2GHz: 1.72Ω; Impedance (0V Bias) @ 5GHz: 3.43Ω; Package Size: 0603; JLCPCB Basic Part: Yes; JLCPCB Part Number: C59461; Supplier 1: LCSC; Category: Capacitors - MLCC; Supplier Part Number 1: C59461; Tolerance: ±20%; Voltage Rating: 6.3V; Temperature Coefficient: X5R; RoHS: Yes; ComponentLink1Description: Datasheet; ComponentLink1URL: https://wmsc.lcsc.com/wmsc/upload/file/pdf/v2/lcsc/2304140030_Samsung-Electro-Mechanics-CL10A226MQ8NRNC_C59461.pdf; ComponentLink2Description: JLCPCB Part URL; ComponentLink2URL: https://jlcpcb.com/partdetail/C59461; ComponentLink3Description: LCSC Part URL; ComponentLink3URL: https://lcsc.com/product-detail/Multilayer-Ceramic-Capacitors-MLCC---SMD-SMT_Samsung-Electro-Mechanics-Samsung-Electro-Mechanics-CL10A226MQ8NRNC_C59461.html; ComponentLink4Description: Samsung Component Library; ComponentLink4URL: https://weblib.samsungsem.com/mlcc/mlcc-ec.do?partNumber=CL10A226MQ8NRN
footprint CAP-0603 (0603 (1608M) Capacitor)
pins: 1, 2

## CL10A475KO8NNNC
designator C?  Capacitance: 4.7uF  (hidden comment: *)
Capacitor, Ceramic (MLCC), 4.7uF, ±10%, 16V, X5R, ±10%, SMD 0603; Manufacturer: Samsung Electro-Mechanics; Manufacturer Part Number: CL10A475KO8NNNC; Temperature Rating: -55°C ~ 85°C; Capacitance @ 1V DC Bias: 4.097uF; Capacitance @ 1.2V DC Bias: 4.030uF; Capacitance @ 1.35V DC Bias: 3.972uF; Capacitance @ 1.5V DC Bias: 3.908uF; Capacitance @ 1.8V DC Bias: 3.769uF; Capacitance @ 2.5V DC Bias: 3.406uF; Capacitance @ 3.3V DC Bias: 2.969uF; Capacitance @ 3.7V DC Bias: 2.760uF; Capacitance @ 4.2V DC Bias: 2.508uF; Capacitance @ 5V DC Bias: 2.138uF; Capacitance @ 9V DC Bias: 1.155uF; Capacitance @ 12V DC Bias: 0.873uF; Capacitance @ 15V DC Bias: 0.647uF; Impedance (0V Bias) @ 100Hz: 437Ω; Impedance (0V Bias) @ 500Hz: 90.6Ω; Impedance (0V Bias) @ 1kHz: 46Ω; Impedance (0V Bias) @ 5kHz: 9.51Ω; Impedance (0V Bias) @ 10kHz: 4.83Ω; Impedance (0V Bias) @ 50kHz: 0.996Ω; Impedance (0V Bias) @ 100kHz: 0.505Ω; Impedance (0V Bias) @ 500kHz: 0.104Ω; Impedance (0V Bias) @ 1MHz: 0.05Ω; Impedance (0V Bias) @ 5MHz: 0.011Ω; Impedance (0V Bias) @ 10MHz: 0.0248Ω; Impedance (0V Bias) @ 50MHz: 0.0811Ω; Impedance (0V Bias) @ 100MHz: 0.141Ω; Impedance (0V Bias) @ 500MHz: 0.57Ω; Impedance (0V Bias) @ 1GHz: 1.02Ω; Impedance (0V Bias) @ 2GHz: 2.37Ω; Impedance (0V Bias) @ 5GHz: 4.65Ω; Impedance (16V Bias) @ 100Hz: 3.74E+03Ω; Impedance (16V Bias) @ 500Hz: 758Ω; Impedance (16V Bias) @ 1kHz: 381Ω; Impedance (16V Bias) @ 5kHz: 77.1Ω; Impedance (16V Bias) @ 10kHz: 38.7Ω; Impedance (16V Bias) @ 50kHz: 7.82Ω; Impedance (16V Bias) @ 100kHz: 3.93Ω; Impedance (16V Bias) @ 500kHz: 0.79Ω; Impedance (16V Bias) @ 1MHz: 0.386Ω; Impedance (16V Bias) @ 5MHz: 0.077Ω; Impedance (16V Bias) @ 10MHz: 0.0173Ω; Impedance (16V Bias) @ 50MHz: 0.0836Ω; Impedance (16V Bias) @ 100MHz: 0.142Ω; Impedance (16V Bias) @ 500MHz: 0.585Ω; Impedance (16V Bias) @ 1GHz: 1.06Ω; Impedance (16V Bias) @ 2GHz: 2.36Ω; Impedance (16V Bias) @ 5GHz: 4.63Ω; Package Size: 0603; JLCPCB Basic Part: Yes; JLCPCB Part Number: C19666; Supplier 1: LCSC; Category: Capacitors - MLCC; Supplier Part Number 1: C19666; Tolerance: ±10%; Voltage Rating: 16V; Temperature Coefficient: X5R; RoHS: Yes; ComponentLink1Description: Datasheet; ComponentLink1URL: https://wmsc.lcsc.com/wmsc/upload/file/pdf/v2/lcsc/2304140030_Samsung-Electro-Mechanics-CL10A475KO8NNNC_C19666.pdf; ComponentLink2Description: JLCPCB Part URL; ComponentLink2URL: https://jlcpcb.com/partdetail/C19666; ComponentLink3Description: LCSC Part URL; ComponentLink3URL: https://lcsc.com/product-detail/Multilayer-Ceramic-Capacitors-MLCC---SMD-SMT_Samsung-Electro-Mechanics-Samsung-Electro-Mechanics-CL10A475KO8NNNC_C19666.html; ComponentLink4Description: Samsung Component Library; ComponentLink4URL: https://weblib.samsungsem.com/mlcc/mlcc-ec.do?partNumber=CL10A475KO8NNN
footprint CAP-0603 (0603 (1608M) Capacitor)
pins: 1, 2

## CL10B102KB8NNNC
designator C?  Capacitance: 1nF  (hidden comment: *)
Capacitor, Ceramic (MLCC), 1nF, ±10%, 50V, X7R, ±10%, SMD 0603; Manufacturer: Samsung Electro-Mechanics; Manufacturer Part Number: CL10B102KB8NNNC; Temperature Rating: -55°C ~ 125°C; Capacitance @ 1V DC Bias: 1.039nF; Capacitance @ 1.2V DC Bias: 1.040nF; Capacitance @ 1.5V DC Bias: 1.041nF; Capacitance @ 2.5V DC Bias: 1.043nF; Capacitance @ 3.3V DC Bias: 1.044nF; Capacitance @ 3.7V DC Bias: 1.045nF; Capacitance @ 15V DC Bias: 1.036nF; Capacitance @ 24V DC Bias: 1.008nF; Capacitance @ 36V DC Bias: 0.949nF; Capacitance @ 48V DC Bias: 0.867nF; Impedance (0V Bias) @ 100Hz: 1.54E+06Ω; Impedance (0V Bias) @ 500Hz: 3.12E+05Ω; Impedance (0V Bias) @ 1kHz: 1.57E+05Ω; Impedance (0V Bias) @ 5kHz: 3.19E+04Ω; Impedance (0V Bias) @ 10kHz: 1.61E+04Ω; Impedance (0V Bias) @ 50kHz: 3.26E+03Ω; Impedance (0V Bias) @ 100kHz: 1.64E+03Ω; Impedance (0V Bias) @ 500kHz: 333Ω; Impedance (0V Bias) @ 1MHz: 168Ω; Impedance (0V Bias) @ 5MHz: 34Ω; Impedance (0V Bias) @ 10MHz: 17.2Ω; Impedance (0V Bias) @ 50MHz: 3.47Ω; Impedance (0V Bias) @ 100MHz: 1.61Ω; Impedance (0V Bias) @ 500MHz: 0.947Ω; Impedance (0V Bias) @ 1GHz: 1.75Ω; Impedance (0V Bias) @ 2GHz: 4.14Ω; Impedance (0V Bias) @ 5GHz: 8.98Ω; Package Size: 0603; JLCPCB Basic Part: Yes; JLCPCB Part Number: C1588; Supplier 1: LCSC; Category: Capacitors - MLCC; Supplier Part Number 1: C1588; Tolerance: ±10%; Voltage Rating: 50V; Temperature Coefficient: X7R; RoHS: Yes; ComponentLink1Description: Datasheet; ComponentLink1URL: https://wmsc.lcsc.com/wmsc/upload/file/pdf/v2/lcsc/2304140030_Samsung-Electro-Mechanics-CL10B102KB8NNNC_C1588.pdf; ComponentLink2Description: JLCPCB Part URL; ComponentLink2URL: https://jlcpcb.com/partdetail/C1588; ComponentLink3Description: LCSC Part URL; ComponentLink3URL: https://lcsc.com/product-detail/Multilayer-Ceramic-Capacitors-MLCC---SMD-SMT_Samsung-Electro-Mechanics-Samsung-Electro-Mechanics-CL10B102KB8NNNC_C1588.html; ComponentLink4Description: Samsung Component Library; ComponentLink4URL: https://weblib.samsungsem.com/mlcc/mlcc-ec.do?partNumber=CL10B102KB8NNN; Capacitance @ 1.35V DC Bias: 1.040nF; Capacitance @ 1.8V DC Bias: 1.041nF; Capacitance @ 4.2V DC Bias: 1.045nF; Capacitance @ 5V DC Bias: 1.045nF; Capacitance @ 9V DC Bias: 1.044nF; Capacitance @ 12V DC Bias: 1.041nF
footprint CAP-0603 (0603 (1608M) Capacitor)
pins: 1, 2

## CL10B104KB8NNNC
designator C?, comment 0.1uF 50V
CAP CER 0.1UF 50V X7R 0603; Supplier 1: Digikey; Supplier Part Number 1: 1276-1000-1-ND; Supplier 2: LCSC; Supplier Part Number 2: C1591; Supplier 3: Digikey; Supplier Part Number 3: 399-C0603C104M5RACTUCT-ND; Supplier 4: LCSC; Supplier Part Number 4: C599655
footprint CAP 0603_1608 (Chip Capacitor, 2-Leads, Body 1.60x0.80mm, IPC Medium Density)
pins: 1, 2

## CL10B105KB8NQNC
designator C?, comment 1uF
CAP CER 1uF 50V X7R 0603; Supplier 1: DIGIKEY; Supplier Part Number 1: 311-2082-1-ND; Supplier 2: LCSC; Supplier Part Number 2: C5199872
footprint CAP 0603_1608 (Chip Capacitor, 2-Leads, Body 1.60x0.80mm, IPC Medium Density)
pins: 1, 2

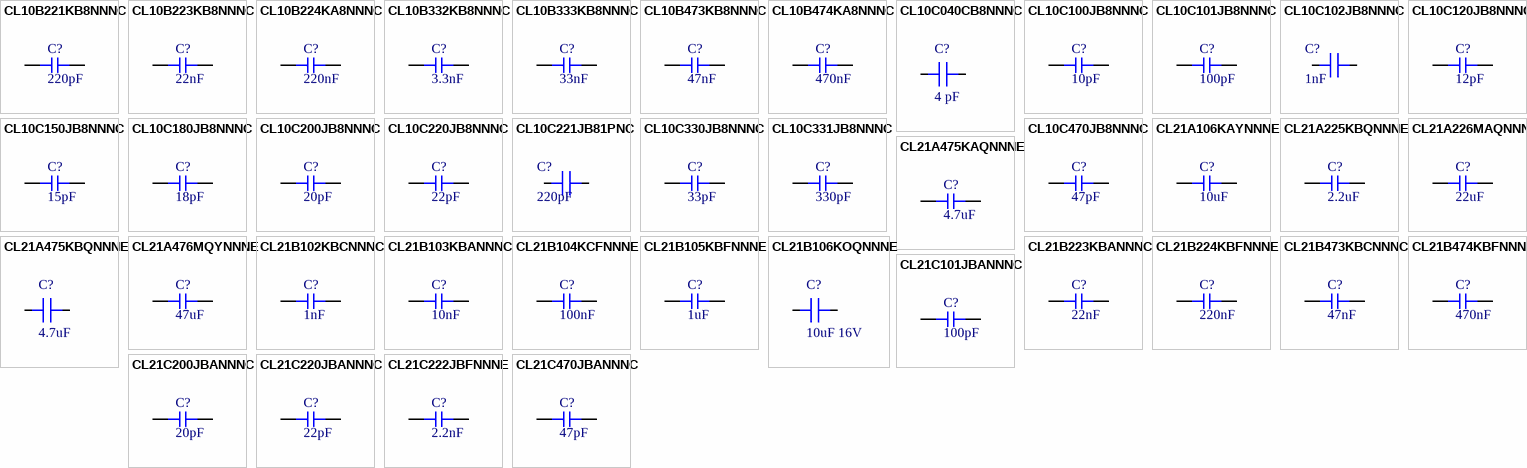
[diagram p10: symbols CL10B221KB8NNNC to CL21C470JBANNNC]

## CL10B221KB8NNNC
designator C?  Capacitance: 220pF  (hidden comment: *)
Capacitor, Ceramic (MLCC), 220pF, ±10%, 50V, X7R, ±10%, SMD 0603; Manufacturer: Samsung Electro-Mechanics; Manufacturer Part Number: CL10B221KB8NNNC; Temperature Rating: -55°C ~ 125°C; Capacitance @ 1V DC Bias: 2005.900pF; Capacitance @ 1.2V DC Bias: 2008.605pF; Capacitance @ 1.35V DC Bias: 2010.942pF; Capacitance @ 1.5V DC Bias: 2013.317pF; Capacitance @ 1.8V DC Bias: 2017.780pF; Capacitance @ 2.5V DC Bias: 2023.887pF; Capacitance @ 3.3V DC Bias: 2027.147pF; Capacitance @ 3.7V DC Bias: 2028.067pF; Capacitance @ 4.2V DC Bias: 2028.924pF; Capacitance @ 5V DC Bias: 2029.600pF; Capacitance @ 9V DC Bias: 2026.648pF; Capacitance @ 12V DC Bias: 2018.585pF; Capacitance @ 15V DC Bias: 2008.508pF; Capacitance @ 24V DC Bias: 1962.793pF; Capacitance @ 36V DC Bias: 1875.648pF; Capacitance @ 48V DC Bias: 1771.037pF; Impedance (0V Bias) @ 100Hz: 6.54E+06Ω; Impedance (0V Bias) @ 500Hz: 1.34E+06Ω; Impedance (0V Bias) @ 1kHz: 6.74E+05Ω; Impedance (0V Bias) @ 5kHz: 1.38E+05Ω; Impedance (0V Bias) @ 10kHz: 6.94E+04Ω; Impedance (0V Bias) @ 50kHz: 1.42E+04Ω; Impedance (0V Bias) @ 100kHz: 7.14E+03Ω; Impedance (0V Bias) @ 500kHz: 1.45E+03Ω; Impedance (0V Bias) @ 1MHz: 733Ω; Impedance (0V Bias) @ 5MHz: 150Ω; Impedance (0V Bias) @ 10MHz: 75.9Ω; Impedance (0V Bias) @ 50MHz: 15.7Ω; Impedance (0V Bias) @ 100MHz: 7.88Ω; Impedance (0V Bias) @ 500MHz: 0.843Ω; Impedance (0V Bias) @ 1GHz: 2.62Ω; Impedance (0V Bias) @ 2GHz: 7.84Ω; Impedance (0V Bias) @ 5GHz: 13.8Ω; Package Size: 0603; JLCPCB Basic Part: Yes; JLCPCB Part Number: C1603; Supplier 1: LCSC; Category: Capacitors - MLCC; Supplier Part Number 1: C1603; Tolerance: ±10%; Voltage Rating: 50V; Temperature Coefficient: X7R; RoHS: Yes; ComponentLink1Description: Datasheet; ComponentLink1URL: https://wmsc.lcsc.com/wmsc/upload/file/pdf/v2/lcsc/2304140030_Samsung-Electro-Mechanics-CL10B221KB8NNNC_C1603.pdf; ComponentLink2Description: JLCPCB Part URL; ComponentLink2URL: https://jlcpcb.com/partdetail/C1603; ComponentLink3Description: LCSC Part URL; ComponentLink3URL: https://lcsc.com/product-detail/Multilayer-Ceramic-Capacitors-MLCC---SMD-SMT_Samsung-Electro-Mechanics-Samsung-Electro-Mechanics-CL10B221KB8NNNC_C1603.html; ComponentLink4Description: Samsung Component Library; ComponentLink4URL: https://weblib.samsungsem.com/mlcc/mlcc-ec.do?partNumber=CL10B221KB8NNN
footprint CAP-0603 (0603 (1608M) Capacitor)
pins: 1, 2

## CL10B223KB8NNNC
designator C?  Capacitance: 22nF  (hidden comment: *)
Capacitor, Ceramic (MLCC), 22nF, ±10%, 50V, X7R, ±10%, SMD 0603; Manufacturer: Samsung Electro-Mechanics; Manufacturer Part Number: CL10B223KB8NNNC; Temperature Rating: -55°C ~ 125°C; Capacitance @ 1V DC Bias: 22.573nF; Capacitance @ 1.2V DC Bias: 22.636nF; Capacitance @ 1.35V DC Bias: 22.685nF; Capacitance @ 1.5V DC Bias: 22.733nF; Capacitance @ 1.8V DC Bias: 22.823nF; Capacitance @ 2.5V DC Bias: 22.946nF; Capacitance @ 3.3V DC Bias: 23.004nF; Capacitance @ 3.7V DC Bias: 23.013nF; Capacitance @ 4.2V DC Bias: 23.008nF; Capacitance @ 5V DC Bias: 22.974nF; Capacitance @ 9V DC Bias: 22.838nF; Capacitance @ 12V DC Bias: 22.650nF; Capacitance @ 15V DC Bias: 22.427nF; Capacitance @ 24V DC Bias: 21.437nF; Capacitance @ 36V DC Bias: 19.554nF; Capacitance @ 48V DC Bias: 17.020nF; Impedance (0V Bias) @ 100Hz: 7.5E+04Ω; Impedance (0V Bias) @ 500Hz: 1.52E+04Ω; Impedance (0V Bias) @ 1kHz: 7.64E+03Ω; Impedance (0V Bias) @ 5kHz: 1.55E+03Ω; Impedance (0V Bias) @ 10kHz: 779Ω; Impedance (0V Bias) @ 50kHz: 158Ω; Impedance (0V Bias) @ 100kHz: 79.4Ω; Impedance (0V Bias) @ 500kHz: 16.1Ω; Impedance (0V Bias) @ 1MHz: 8.09Ω; Impedance (0V Bias) @ 5MHz: 1.63Ω; Impedance (0V Bias) @ 10MHz: 0.801Ω; Impedance (0V Bias) @ 50MHz: 0.0651Ω; Impedance (0V Bias) @ 100MHz: 0.206Ω; Impedance (0V Bias) @ 500MHz: 0.865Ω; Impedance (0V Bias) @ 1GHz: 1.65Ω; Impedance (0V Bias) @ 2GHz: 4.18Ω; Impedance (0V Bias) @ 5GHz: 9.53Ω; Package Size: 0603; JLCPCB Basic Part: Yes; JLCPCB Part Number: C21122; Supplier 1: LCSC; Category: Capacitors - MLCC; Supplier Part Number 1: C21122; Tolerance: ±10%; Voltage Rating: 50V; Temperature Coefficient: X7R; RoHS: Yes; ComponentLink1Description: Datasheet; ComponentLink1URL: https://wmsc.lcsc.com/wmsc/upload/file/pdf/v2/lcsc/2304140030_Samsung-Electro-Mechanics-CL10B223KB8NNNC_C21122.pdf; ComponentLink2Description: JLCPCB Part URL; ComponentLink2URL: https://jlcpcb.com/partdetail/C21122; ComponentLink3Description: LCSC Part URL; ComponentLink3URL: https://lcsc.com/product-detail/Multilayer-Ceramic-Capacitors-MLCC---SMD-SMT_Samsung-Electro-Mechanics-Samsung-Electro-Mechanics-CL10B223KB8NNNC_C21122.html; ComponentLink4Description: Samsung Component Library; ComponentLink4URL: https://weblib.samsungsem.com/mlcc/mlcc-ec.do?partNumber=CL10B223KB8NNN
footprint CAP-0603 (0603 (1608M) Capacitor)
pins: 1, 2